# Altium schematic symbol library LCD_4.5.SCHLIB: 18 symbols
Pins are listed as number, name and electrical type; pins without a type are passive.

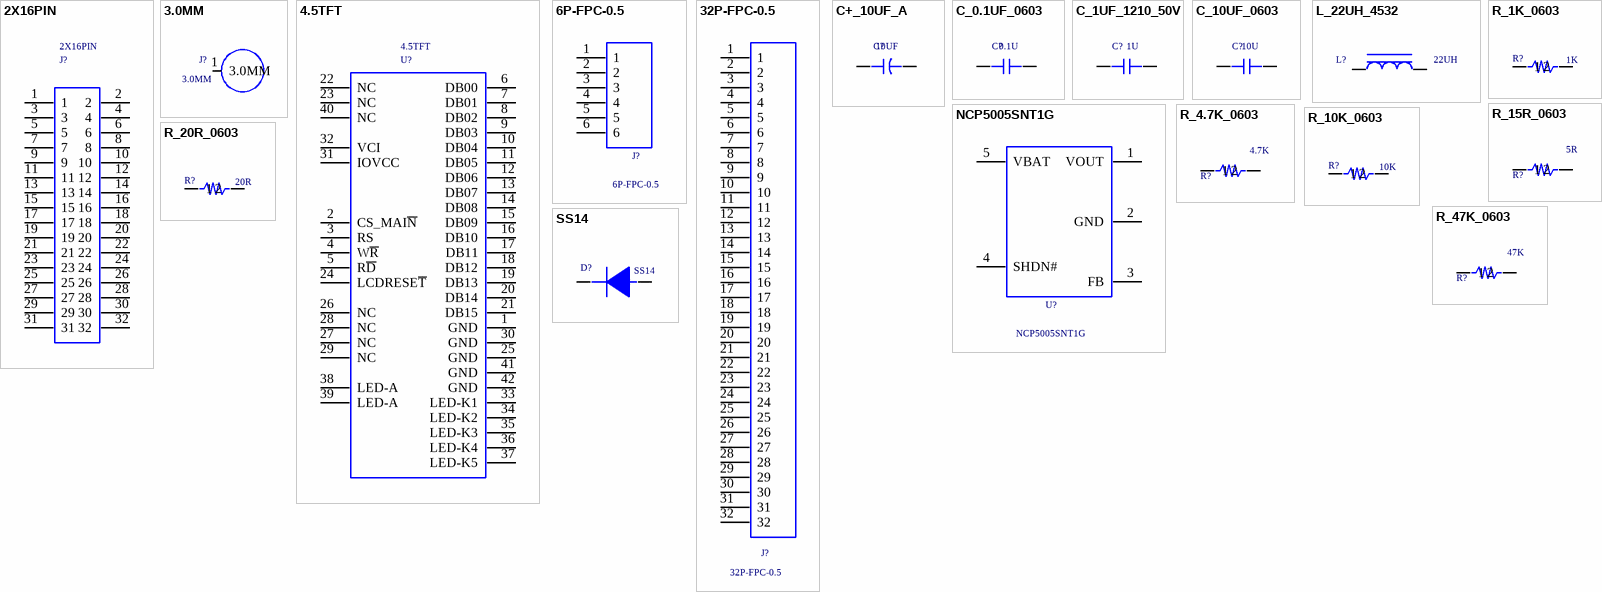
[diagram p0: symbols 2X16PIN to SS14]

## 2X16PIN
designator J?
PCB DECAL: 32PINLCD2.54_SMD
footprint 32PINLCD2.54_SMD
pins: 1, 2, 3, 4, 5, 6, 7, 8, 9, 10, 11, 12, 13, 14, 15, 16, 17, 18, 19, 20, 21, 22, 23, 24, 25, 26, 27, 28, 29, 30, 31, 32

## 3.0MM
designator J?
PCB DECAL: 3.0MM
footprint 3.0MM
pins: 1 3.0MM

## 4.5TFT
designator U?
Value: LCD4.5-ILI9806G; PCB DECAL: 40PIN0.5MMZUOZI
footprint 40PIN0.5MMZUOZI
pins: 1 GND, 2 CS_MAI~{N}, 3 RS, 4 W~{R}, 5 R~{D}, 6 DB00, 7 DB01, 8 DB02, 9 DB03, 10 DB04, 11 DB05, 12 DB06, 13 DB07, 14 DB08, 15 DB09, 16 DB10, 17 DB11, 18 DB12, 19 DB13, 20 DB14, 21 DB15, 22 NC, 23 NC, 24 LCDRESE~{T}, 25 GND, 26 NC, 27 NC, 28 NC, 29 NC, 30 GND, 31 IOVCC, 32 VCI, 33 LED-K1, 34 LED-K2, 35 LED-K3, 36 LED-K4, 37 LED-K5, 38 LED-A, 39 LED-A, 40 NC, 41 GND, 42 GND

## 6P-FPC-0.5
designator J?
Value: FPC_0.5_6P; PCB DECAL: 6P-FPC-0.5
footprint 6P-FPC-0.5
pins: 1, 2, 3, 4, 5, 6

## 32P-FPC-0.5
designator J?
Value: 32P_FPC_0.5; PCB DECAL: 32P-FPC-0.5
footprint 32P-FPC-0.5
pins: 1, 2, 3, 4, 5, 6, 7, 8, 9, 10, 11, 12, 13, 14, 15, 16, 17, 18, 19, 20, 21, 22, 23, 24, 25, 26, 27, 28, 29, 30, 31, 32

## C+_10UF_A
designator C?  value 10UF  (hidden comment: C+_10UF_A)
PCB DECAL: AVX_A_3216-18
footprint AVX_A_3216-18
pins: 1 +, 2 -

## C_0.1UF_0603
designator C?  value 0.1U  (hidden comment: C_0.1UF_0603)
PCB DECAL: C_0603
footprint C_0603
pins: 1, 2

## C_1UF_1210_50V
designator C?  value 1U  (hidden comment: C_1UF_1210_50V)
PCB DECAL: 1210
footprint 1210
pins: 1, 2

## C_10UF_0603
designator C?  value 10U  (hidden comment: C_10UF_0603)
PCB DECAL: C_0603
footprint C_0603
pins: 1, 2

## L_22UH_4532
designator L?  value 22UH  (hidden comment: L_22UH_4532)
PCB DECAL: GDCD4532
footprint GDCD4532
pins: 1, 2

## NCP5005SNT1G
designator U?
PCB DECAL: SOT-23-5; Value: NCP5005SNT1G
footprint SOT-23-5
pins: 1 VOUT, 2 GND, 3 FB, 4 SHDN#, 5 VBAT

## R_1K_0603
designator R?  value 1K  (hidden comment: R_1K_0603)
PCB DECAL: R_0603
footprint R_0603
pins: 1, 2

## R_4.7K_0603
designator R?  value 4.7K  (hidden comment: R_4.7K_0603)
PCB DECAL: R_0603
footprint R_0603
pins: 1, 2

## R_10K_0603
designator R?  value 10K  (hidden comment: R_10K_0603)
PCB DECAL: R_0603
footprint R_0603
pins: 1, 2

## R_15R_0603
designator R?  value 5R  (hidden comment: R_15R_0603)
PCB DECAL: R_0603
footprint R_0603
pins: 1, 2

## R_20R_0603
designator R?  value 20R  (hidden comment: R_20R_0603)
PCB DECAL: R_0603
footprint R_0603
pins: 1, 2

## R_47K_0603
designator R?  value 47K  (hidden comment: R_47K_0603)
PCB DECAL: R_0603
footprint R_0603
pins: 1, 2

## SS14
designator D?
PCB DECAL: SS24_1206; Value: SS14
footprint SS24_1206
pins: 1 +, 2 -